# Altium schematic symbol library INA2xx.SchLib: 2 symbols
Pins are listed as number, name and electrical type; pins without a type are passive.

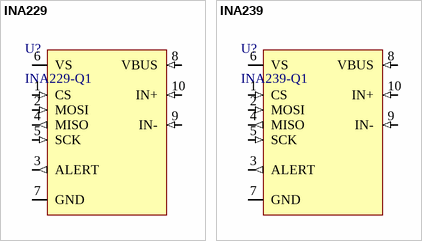
[diagram p0: symbols INA229 to INA239]

## INA229
designator U?, comment INA229-Q1
85-V, 20-Bit, Ultra-Precise Power/Energy/Charge Monitor With SPI Interface; Manufacturer: Texas Instruments; Manufacturer Part Number: INA229AQDGSRQ1
footprint VSSOP10 (VSSOP, 10-Leads, Body 3.00x3.00mm, Pitch 0.50mm)
pins: 1 CS (in), 2 MOSI (in), 3 ALERT (out), 4 MISO (out), 5 SCK (in), 6 VS (power), 7 GND (power), 8 VBUS (in), 9 IN- (in), 10 IN+ (in)

## INA239
designator U?, comment INA239-Q1
85-V, 16-Bit, Ultra-Precise Power Monitor With SPI Interface; Manufacturer: Texas Instruments; Manufacturer Part Number: INA239AQDGSRQ1
footprint VSSOP10 (VSSOP, 10-Leads, Body 3.00x3.00mm, Pitch 0.50mm)
pins: 1 CS (in), 2 MOSI (in), 3 ALERT (out), 4 MISO (out), 5 SCK (in), 6 VS (power), 7 GND (power), 8 VBUS (in), 9 IN- (in), 10 IN+ (in)